# Altium footprint library EC200U-PCB.PcbLib: 36 footprints (part 3 of 3)
Each footprint in its own frame and in the unit in brackets; x right, y up, seen from the top. Pads: shape width x height; smd on the part's side, far side on the other; paste and mask are expansions set on the pad; w line width, h text height; cw(c..) or ccw(c..) is an arc to the next point about the centre after c.
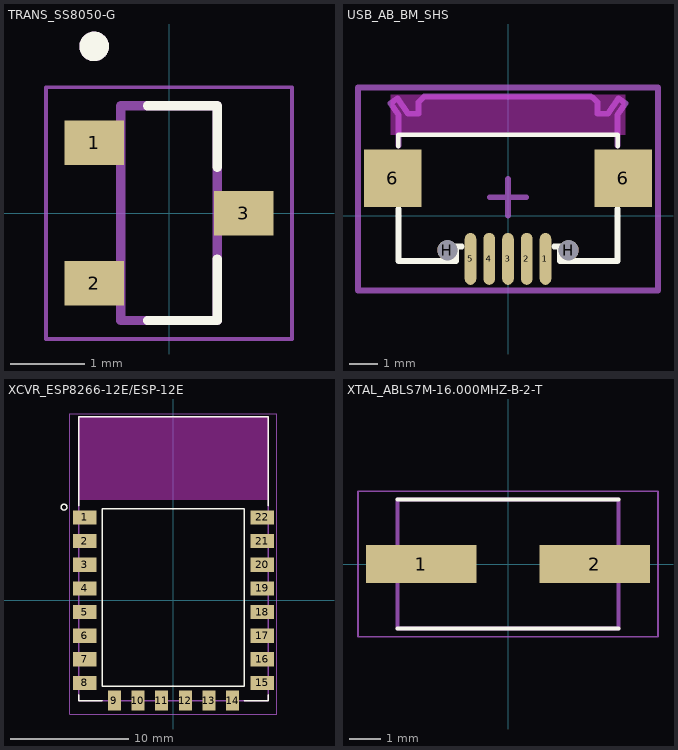
[diagram p2: the footprints below, top view; thin cyan lines are the x and y axes]

## TRANS_SS8050-G [mm]
pads (3):
  rect 0.8x0.6 smd: 1(-1.01,0.95) 2(-1.01,-0.95) 3(1.01,0)
Top Overlay:
  circle w0.2: c-1.01,2.25 r0.1
  lines w0.127: -0.29,-1.45 0.65,-1.45 0.65,-0.62 ; -0.29,1.45 0.65,1.45 0.65,0.62
Mechanical 13:
  circle w0.2: c-1.01,2.25 r0.1
  lines w0.127: -0.65,-1.45 0.65,-1.45 0.65,1.45 -0.65,1.45 -0.65,-1.45
Mechanical 15:
  lines w0.05: -1.66,-1.7 -1.66,1.7 1.66,1.7 1.66,-1.7 -1.66,-1.7

## USB_AB_BM_SHS [mm]
pads (9):
  oval 0.4x1.8 smd: 1(1.3,-1.5) 2(0.65,-1.5) 3(0,-1.5) 4(-0.65,-1.5) 5(-1.3,-1.5)
  rect 2x2 smd: 6(-4,1.3) 6(4,1.3)
  round 0.7 hole 0.7: H(-2.1,-1.2) H(2.1,-1.2)
Top Overlay:
  lines w0.15: -3.8,2.4 -3.8,2.8 3.8,2.8 3.8,2.4
  lines w0.2: -3.8,0.23 -3.8,-0.27 -3.8,-1.57 -1.9,-1.57 -1.8,-1.57 -1.8,-1.07 -1.6,-1.07 ; 1.6,-1.07 1.8,-1.07 1.8,-1.57 1.9,-1.57 3.8,-1.57 3.8,-0.27 3.8,0.23
Keep-Out Layer:
  board cut-out: -4.064,2.8 -4.064,4.191 4.064,4.191 4.064,2.8
Mechanical 1:
  lines w0.1: -3.8,2.794 3.8,2.794
  lines w0.2: -3.8,2.43 -3.8,3.491 -4.078,3.892 -3.831,4.063 -3.462,3.53 -3.1,3.53 -3.1,3.93 -2.9,4.13 2.87,4.13 2.9,4.1 2.93,4.1 3.1,3.93 3.1,3.53 3.462,3.53 3.831,4.063 4.078,3.892 3.8,3.491 3.8,2.43
  text "PCB EDGE" at -2.413,3.048 h0.7
Mechanical 15:
  lines w0.2: -0.635,0.635 0.635,0.635 ; 0,0 0,1.27 ; -5.2,-2.6 5.2,-2.6 5.2,4.445 -5.2,4.445 -5.2,-2.6
3D body "65944.stEp": height 2.75, standoff -0.55, extent -4,-1.88 4,4.164

## XCVR_ESP8266-12E/ESP-12E [mm]
pads (22):
  rect 2x1.2 smd: 1(-7.5,7) 2(-7.5,5) 3(-7.5,3) 4(-7.5,1) 5(-7.5,-1) 6(-7.5,-3) 7(-7.5,-5) 8(-7.5,-7) 15(7.5,-7) 16(7.5,-5) 17(7.5,-3) 18(7.5,-1) 19(7.5,1) 20(7.5,3) 21(7.5,5) 22(7.5,7)
  rect 1.1x1.7 smd: 9(-5,-8.5) 10(-3,-8.5) 11(-1,-8.5) 12(1,-8.5) 13(3,-8.5) 14(5,-8.5)
Top Overlay:
  circle w0.127: c-9.25,7.875 r0.25
  lines w0.127: -8,-8 -8,-8.5 -6,-8.5 ; -8,8 -8,15.5 8,15.5 8,8 ; 6,-8.5 8,-8.5 8,-8 ; -6,-7.26 -6,7.74 6,7.74 6,-7.26 -6,-7.26
Keep-Out Layer:
  region: 8,8.51 -8.009,8.51 -8.009,15.5 8,15.5
  region: 8,8.51 -8.009,8.51 -8.009,15.5 8,15.5
Mechanical 13:
  lines w0.127: -8,-8.5 -8,15.5 8,15.5 8,-8.5 -8,-8.5
Mechanical 15:
  lines w0.05: -8.75,-9.625 -8.75,15.75 8.75,15.75 8.75,-9.625 -8.75,-9.625

## XTAL_ABLS7M-16.000MHZ-B-2-T [mm]
pads (2):
  rect 3.5x1.2 smd: 1(-2.75,0) 2(2.75,0)
Top Overlay:
  lines w0.127: -3.5,-2.05 3.5,-2.05 ; -3.5,2.05 3.5,2.05
Mechanical 13:
  lines w0.127: -3.5,-2.05 3.5,-2.05 3.5,2.05 -3.5,2.05 -3.5,-2.05
Mechanical 15:
  lines w0.05: -4.75,-2.3 4.75,-2.3 4.75,2.3 -4.75,2.3 -4.75,-2.3
3D body "step_temp.STEP": height 2.3, standoff 0, extent -3.8,-2.05 3.8,2.05